# Altium schematic symbol library ERJU01J272C.SchLib: 1 symbol
Pins are listed as number, name and electrical type; pins without a type are passive.

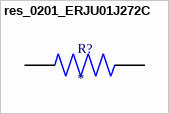
[diagram p0: symbol res_0201_ERJU01J272C]

## res_0201_ERJU01J272C
designator R?
MP: ERJU01J272C; Availability: Unavailable; Price: None; Package: None; Value: *
footprint RES_ERJU01J272C
pins: 1, 2